# Altium integrated library SAMTEC-FTS-102-01-X-S.IntLib: 1 symbol
Pins are listed as number, name and electrical type; pins without a type are passive.

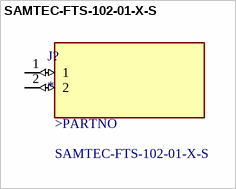
[diagram p0: symbol SAMTEC-FTS-102-01-X-S]

## SAMTEC-FTS-102-01-X-S
designator J?
MP: SAMTEC-FTS-102-01-X-S; MF: Samtec; Value: *; Availability: Unavailable; Price: None; Package: None
footprint SAMTEC-FTS-102-01-X-S
pins: 1 (io), 2 (io)
text: >PARTNO